# EAGLE library part CAN_BLOCK (library template_board)
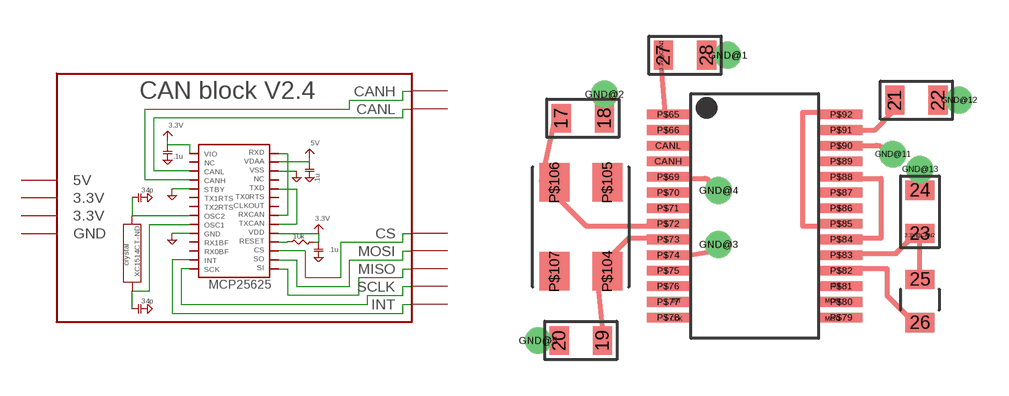
[diagram p23: symbol with the pads of CAN_BLOCK; footprint CAN_BLOCK]

Designator prefix -

## CAN_BLOCK  [CAN_BLOCK]
3.3V@CAN1  3.3V
3.3V@CAN2  3.3V
5V  5V
CANH  CANH
CANL  CANL
CLK  SCLK
CS  CS
GND@1  GND
GND@2  GND
GND@3  GND
GND@4  GND
GND@5  GND
GND@11  GND
GND@12  GND
GND@13  GND
INT  INT
MISO  MISO
MOSI  MOSI

## Footprint CAN_BLOCK (pad centres in mm)
smd 0.25 x 1: 3.3V@CAN1 -3.875,6.375; 5V 5.65,4.5
smd 1 x 0.25: 3.3V@CAN2 6.875,-1.125; CLK -3.25,-4.6; CS 3.4,-3.2; INT -3.25,-3.85; MISO 3.25,-4.6; MOSI 3.25,-3.85
smd 0.8 x 1.2: 17 -8.045,3.75; 18 -6.245,3.75; 19 -6.33,-5.5; 20 -8.13,-5.5; 21 5.83,4.5; 22 7.63,4.5; 27 -3.795,6.375; 28 -1.995,6.375
smd 1.2 x 0.8: 23 6.875,-1.045; 24 6.875,0.755; 25 6.875,-2.955; 26 6.875,-4.755
smd 1.75 x 0.4: CANH -3.6,1.96; CANL -3.6,2.61; P$65 -3.6,3.91; P$66 -3.6,3.26; P$69 -3.6,1.31; P$70 -3.6,0.66; P$71 -3.6,0.01; P$72 -3.6,-0.64; P$73 -3.6,-1.29; P$74 -3.6,-1.94; P$75 -3.6,-2.59; P$76 -3.6,-3.24; P$77 -3.6,-3.89; P$78 -3.6,-4.54; P$79 3.6,-4.54; P$80 3.6,-3.89; P$81 3.6,-3.24; P$82 3.6,-2.59; P$83 3.6,-1.94; P$84 3.6,-1.29; P$85 3.6,-0.64; P$86 3.6,0.01; P$87 3.6,0.66; P$88 3.6,1.31; P$89 3.6,1.96; P$90 3.6,2.61; P$91 3.6,3.26; P$92 3.6,3.91
drill 0.61: GND@1 -1.125,6.375; GND@2 -6.25,4.75; GND@3 -1.5,-1.5; GND@4 -1.5,0.75; GND@5 -9,-5.5; GND@11 5.75,2.25; GND@12 8.5,4.5; GND@13 6.875,1.625
smd 1.25 x 1.6: P$104 -6.13,-2.62; P$105 -6.13,1.08; P$106 -8.33,1.08; P$107 -8.33,-2.62